# Altium schematic symbol library Acsial.SchLib: 4 symbols
Pins are listed as number, name and electrical type; pins without a type are passive.

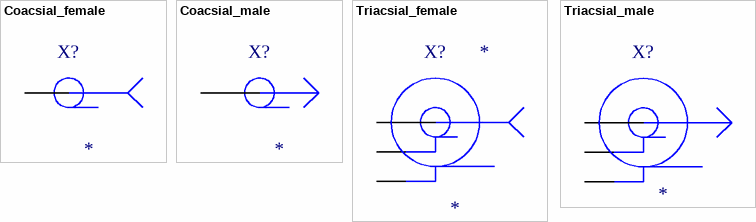
[diagram p0: symbols Coacsial_female to Triacsial_male]

## Coacsial_female
designator X?
Коаксиальная розетка; ValueSch: *; Marking: *
pins: central, ekran

## Coacsial_male
designator X?
Коаксиальная вилка; ValueSch: *; Marking: *
pins: central Central "Центральный электрод", ekran

## Triacsial_female
designator X?
Триаксиальная розетка; ValueSch: *; Marking: *
pins: central, ekran_ext "Внешнний экран", ekran_int "Внутренний экран"

## Triacsial_male
designator X?
Триаксиальная вилка; ValueSch: *; Marking: *
pins: central Central "Центральный электрод", ekran_ext "Внешнний экран", ekran_int "Внутренний экран"